# EAGLE library part ULN2003 (library OpenMotics)
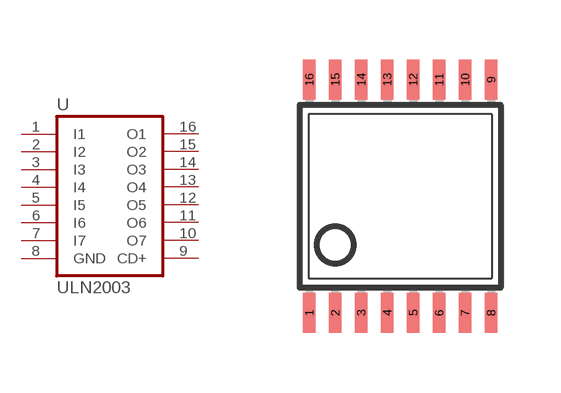
[diagram p37: symbol with the pads of TSSOP16; footprint TSSOP16]

Designator prefix U

## ULN2003  [TSSOP16]
1  I1  in
2  I2  in
3  I3  in
4  I4  in
5  I5  in
6  I6  in
7  I7  in
8  GND  pwr
9  CD+  pas
10  O7  oc
11  O6  oc
12  O5  oc
13  O4  oc
14  O3  oc
15  O2  oc
16  O1  oc

## Footprint TSSOP16 (pad centres in mm)
smd 0.305 x 0.991: 1 -2.24,-3.102; 2 -1.59,-3.102; 3 -0.94,-3.102; 4 -0.29,-3.102; 5 0.36,-3.102; 6 1.01,-3.102; 7 1.66,-3.102; 8 2.31,-3.102; 9 2.31,2.734; 10 1.66,2.734; 11 1.01,2.734; 12 0.36,2.734; 13 -0.29,2.734; 14 -0.94,2.734; 15 -1.59,2.734; 16 -2.24,2.734